# Altium footprint library HPI1260-8R0.PcbLib: 1 footprints
Each footprint in its own frame and in the unit in brackets; x right, y up, seen from the top. Pads: shape width x height; smd on the part's side, far side on the other; paste and mask are expansions set on the pad; w line width, h text height; cw(c..) or ccw(c..) is an arc to the next point about the centre after c.
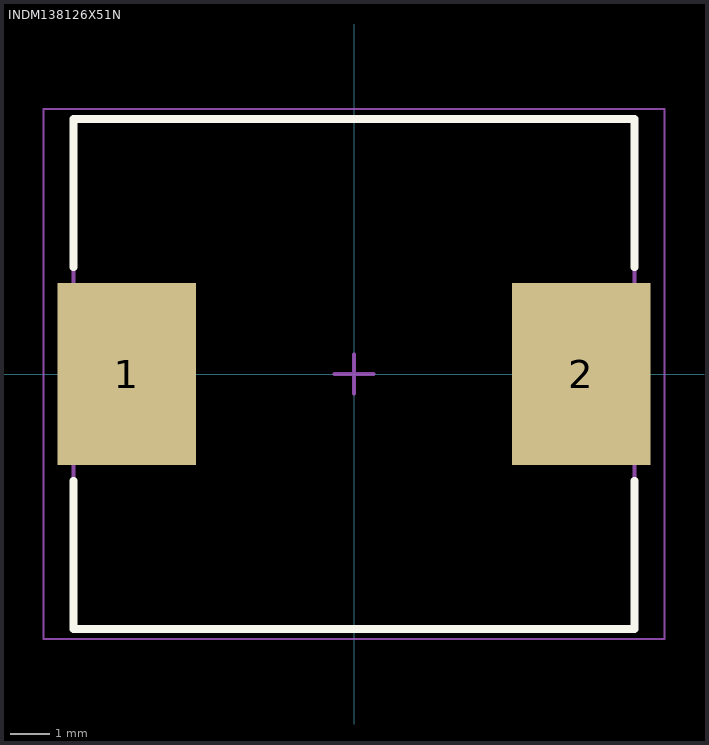
[diagram p0: the footprint, top view; thin cyan lines are the x and y axes]

## INDM138126X51N [mm] "Molded Inductor, 2-Leads, Body 13,75x12,60mm, IPC Medium Density"
height 5.1
pads (2):
  rect 3.5x4.6 smd: 1(-5.75,0) 2(5.75,0)
Top Overlay:
  lines w0.2: -7.1,-2.7 -7.1,-6.45 7.1,-6.45 7.1,-2.7 ; -7.1,2.7 -7.1,6.45 7.1,6.45 7.1,2.7
Mechanical 13:
  lines w0.1: -7.1,-6.45 -7.1,6.45 7.1,6.45 7.1,-6.45 -7.1,-6.45
Mechanical 15:
  lines w0.05: -7.85,-6.7 -7.85,6.7 7.85,6.7 7.85,-6.7 -7.85,-6.7
  lines w0.1: -0.5,0 0.5,0 ; 0,-0.5 0,0.5
3D body: height 5.1, standoff 0, extent -7.1,-6.45 7.1,6.45